# Altium footprint library 3vreg.PcbLib: 5 footprints
Each footprint in its own frame and in the unit in brackets; x right, y up, seen from the top. Pads: shape width x height; smd on the part's side, far side on the other; paste and mask are expansions set on the pad; w line width, h text height; cw(c..) or ccw(c..) is an arc to the next point about the centre after c.
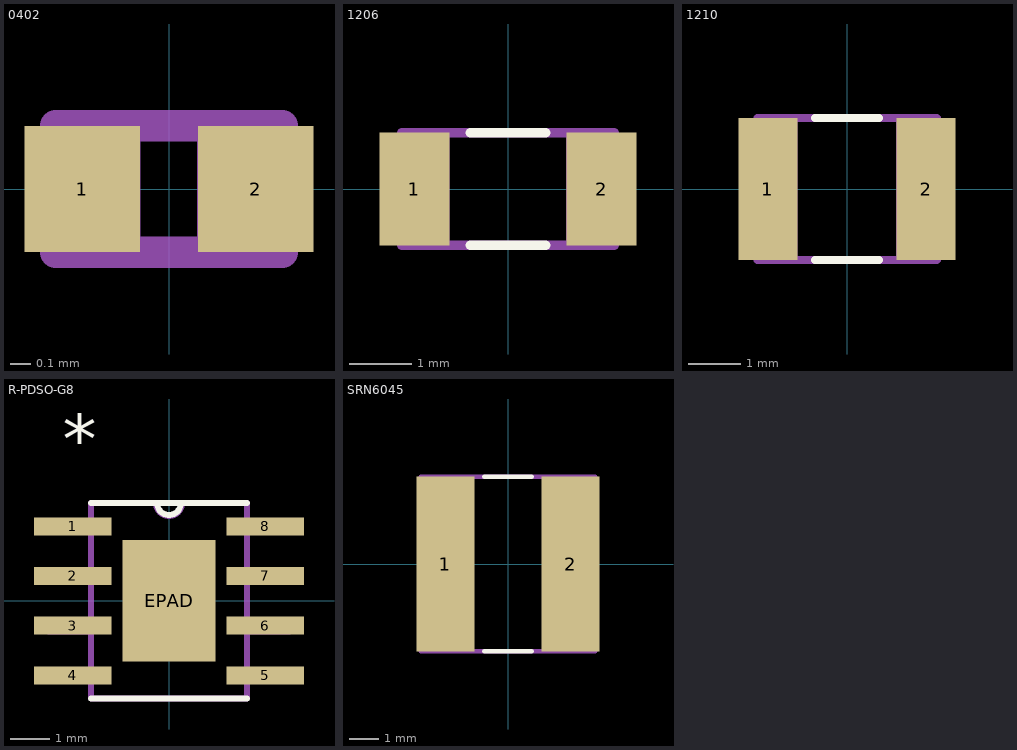
[diagram p0: the footprints below, top view; thin cyan lines are the x and y axes]

## 0402 [mil]
height 22
pads (2):
  rect 22x24 smd: 1(-16.5,0) 2(16.5,0)
Mechanical 1:
  lines w6: -21.5,-12 21.5,-12 21.5,12 -21.5,12 -21.5,-12
  text "22" at 0,0 h50
Mechanical 13:
  lines w0: -21.5,-12 -21.5,12 ; -21.5,-12 21.5,-12 ; -21.5,-12 -5.5,-12 -5.5,12 -21.5,12 ; -21.5,-12 -21.5,12 ; -21.5,12 21.5,12 ; 21.5,-12 21.5,12 ; 21.5,-12 21.5,12 ; 21.5,-12 5.5,-12 5.5,12 21.5,12
3D body: height 20, standoff 0, extent -21.5,-12 21.5,12

## 1206 [mil]
height 30
pads (2):
  rect 44x71 smd: 1(-59,0) 2(59,0)
Top Overlay:
  lines w6: -23.9,-35.5 23.9,-35.5 ; -23.9,35.5 23.9,35.5
Mechanical 1:
  lines w6: -67,-35.5 -67,35.5 67,35.5 67,-35.5 -67,-35.5
  text "30" at 0,0 h50
Mechanical 13:
  lines w0: -67,-35.5 -67,35.5 ; -67,-35.5 -37,-35.5 -37,35.5 -67,35.5 ; -67,-35.5 67,-35.5 ; -67,-35.5 -67,35.5 ; -67,35.5 67,35.5 ; 67,-35.5 37,-35.5 37,35.5 67,35.5 ; 67,-35.5 67,35.5 ; 67,-35.5 67,35.5
3D body: height 40, standoff 0, extent -68,-34.5 67,35.5

## 1210 [mil]
height 59
pads (2):
  rect 44x106 smd: 1(-59,0) 2(59,0)
Top Overlay:
  lines w6: -23.9,-53 23.9,-53 ; -23.9,53 23.9,53
Mechanical 1:
  lines w6: -67,-53 67,-53 67,53 -67,53 -67,-53
  text "59" at 0,0 h50
Mechanical 13:
  lines w0: -67,-53 -67,53 ; -67,-53 67,-53 ; -67,-53 -37,-53 -37,53 -67,53 ; -67,-53 -67,53 ; -67,53 67,53 ; 67,-53 67,53 ; 67,-53 67,53 ; 67,-53 37,-53 37,53 67,53
3D body: height 40, standoff 0, extent -67,-53 68,52

## R-PDSO-G8 [mil]
height 100
pads (9):
  rect 78x18.14 smd: 1(-97,75) 2(-97,25) 3(-97,-25) 4(-97,-75) 5(97,-75) 6(97,-25) 7(97,25) 8(97,75)
  rect 94x122 smd paste-60.5: EPAD(0,0)
Top Overlay:
  lines w6: -78.5,-98.5 78.5,-98.5 ; -78.5,98.5 78.5,98.5 ; -12,98.5 ccw(c0,98.5) 12,98.5
  text "*" at -107,138.14 h50
Top Paste:
  region: 43.06,57.06 -43.06,57.06 -43.06,3.94 43.06,3.94
  region: 43.06,-3.94 -43.06,-3.94 -43.06,-57.06 43.06,-57.06
Mechanical 1:
  lines w6: -13.08,98.5 ccw(c0,98.5) 13.08,98.5 ; -78.5,-98.5 -78.5,98.5 78.5,98.5 78.5,-98.5 -78.5,-98.5
  text "100" at 0,0 h50
Mechanical 13:
  lines w0: -12,98.5 ccw(c0,98.5) 12,98.5 ; -122,-83.07 -122,-66.93 -78.5,-66.93 -78.5,-83.07 -122,-83.07 ; -122,-33.07 -122,-16.93 -78.5,-16.93 -78.5,-33.07 -122,-33.07 ; -122,16.93 -122,33.07 -78.5,33.07 -78.5,16.93 -122,16.93 ; -122,66.93 -122,83.07 -78.5,83.07 -78.5,66.93 -122,66.93 ; -78.5,-98.5 78.5,-98.5 78.5,98.5 -78.5,98.5 -78.5,-98.5 ; 78.5,-83.07 78.5,-66.93 122,-66.93 122,-83.07 78.5,-83.07 ; 78.5,-33.07 78.5,-16.93 122,-16.93 122,-33.07 78.5,-33.07 ; 78.5,16.93 78.5,33.07 122,33.07 122,16.93 78.5,16.93 ; 78.5,66.93 78.5,83.07 122,83.07 122,66.93 78.5,66.93
  text "*" at -107,138.14 h50
3D body: height 55, standoff 0, extent -78.5,-98.5 78.5,98.5

## SRN6045 [mm]
height 4.5
pads (2):
  rect 2x6 smd: 1(-2.15,0) 2(2.15,0)
Top Overlay:
  lines w0.152: -0.817,-3 0.817,-3 ; -0.817,3 0.817,3
Mechanical 1:
  lines w0.152: -3,-3 -3,3 3,3 3,-3 -3,-3
  text "177.1654" at 0,0 h1.27
Mechanical 13:
  lines w0: -3,-1.5 -3,1.5 -1.5,3 1.5,3 3,1.5 3,-1.5 1.5,-3 -1.5,-3 -3,-1.5
3D body: height 3.81, standoff 0, extent -3,-3 3,3